# EAGLE library part MODULE-RF7198(LGA31-5.25X5.3MM) (library Seeed-OPL-Antenna)
317010002
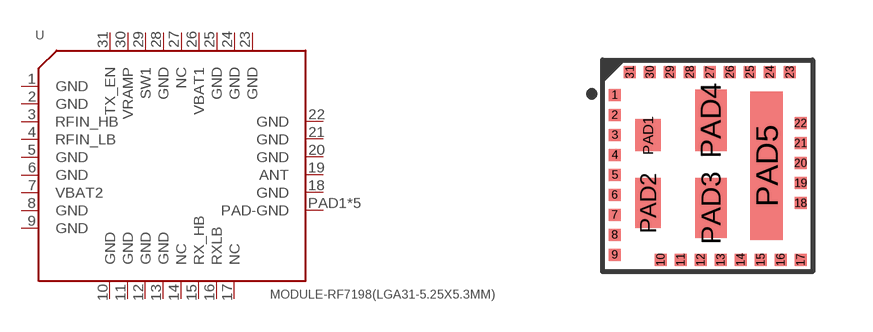
[diagram p0: symbol with the pads of LGA31-0.5-5.25X5.3MM; footprint LGA31-0.5-5.25X5.3MM]

Designator prefix U

## MODULE-RF7198(LGA31-5.25X5.3MM) (MPN: RF7198; VALUE: RF7198)  [LGA31-0.5-5.25X5.3MM]
1  GND  sup
2  GND  sup
3  RFIN_HB
4  RFIN_LB
5  GND  sup
6  GND  sup
7  VBAT2
8  GND  sup
9  GND  sup
10  GND  sup
11  GND  sup
12  GND  sup
13  GND  sup
14  NC  nc
15  RX_HB
16  RXLB
17  NC  nc
18  GND  sup
19  ANT
20  GND  sup
21  GND  sup
22  GND  sup
23  GND  sup
24  GND  sup
25  GND  sup
26  VBAT1
27  NC  sup
28  GND
29  SW1
30  VRAMP
31  TX_EN
PAD1  PAD-GND  sup
PAD2  PAD-GND  sup
PAD3  PAD-GND  sup
PAD4  PAD-GND  sup
PAD5  PAD-GND  sup

## Footprint LGA31-0.5-5.25X5.3MM (pad centres in mm)
smd 0.3 x 0.3: 1 -2.325,1.77; 2 -2.325,1.27; 3 -2.325,0.77; 4 -2.325,0.27; 5 -2.325,-0.23; 6 -2.325,-0.73; 7 -2.325,-1.23; 8 -2.325,-1.73; 9 -2.325,-2.23; 10 -1.175,-2.35; 11 -0.675,-2.35; 12 -0.175,-2.35; 13 0.325,-2.35; 14 0.825,-2.35; 15 1.325,-2.35; 16 1.825,-2.35; 17 2.325,-2.35; 18 2.325,-0.933; 19 2.325,-0.433; 20 2.325,0.067; 21 2.325,0.567; 22 2.325,1.067; 23 2.055,2.35; 24 1.555,2.35; 25 1.055,2.35; 26 0.555,2.35; 27 0.055,2.35; 28 -0.445,2.35; 29 -0.945,2.35; 30 -1.445,2.35; 31 -1.945,2.35
smd 0.635 x 0.8: PAD1 -1.493,0.765
smd 0.635 x 1.245: PAD2 -1.493,-0.933
smd 0.785 x 1.49: PAD3 0.083,-1.055
smd 0.785 x 1.535: PAD4 0.083,1.133
smd 0.805 x 3.715: PAD5 1.473,0